# EAGLE library part LT3494A (library LT3494A)
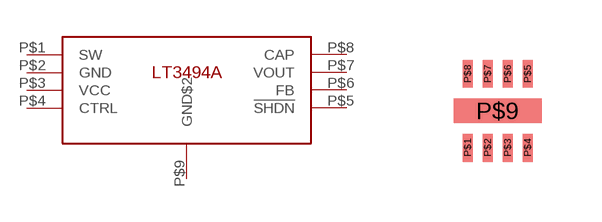
[diagram p0: symbol with the pads of LT3494A; footprint LT3494A]

Designator prefix -

## LT3494A  [LT3494A]
P$1  SW
P$2  GND
P$3  VCC
P$4  CTRL
P$5  !SHDN
P$6  FB
P$7  VOUT
P$8  CAP
P$9  GND$2

## Footprint LT3494A (pad centres in mm)
smd 0.25 x 0.7: P$1 -0.75,-0.925; P$2 -0.25,-0.925; P$3 0.25,-0.925; P$4 0.75,-0.925; P$5 0.75,0.925; P$6 0.25,0.925; P$7 -0.25,0.925; P$8 -0.75,0.925
smd 2.2 x 0.61: P$9 0,0